# Altium footprint library TE_9-966140-4.PcbLib: 1 footprints
Each footprint in its own frame and in the unit in brackets; x right, y up, seen from the top. Pads: shape width x height; smd on the part's side, far side on the other; paste and mask are expansions set on the pad; w line width, h text height; cw(c..) or ccw(c..) is an arc to the next point about the centre after c.
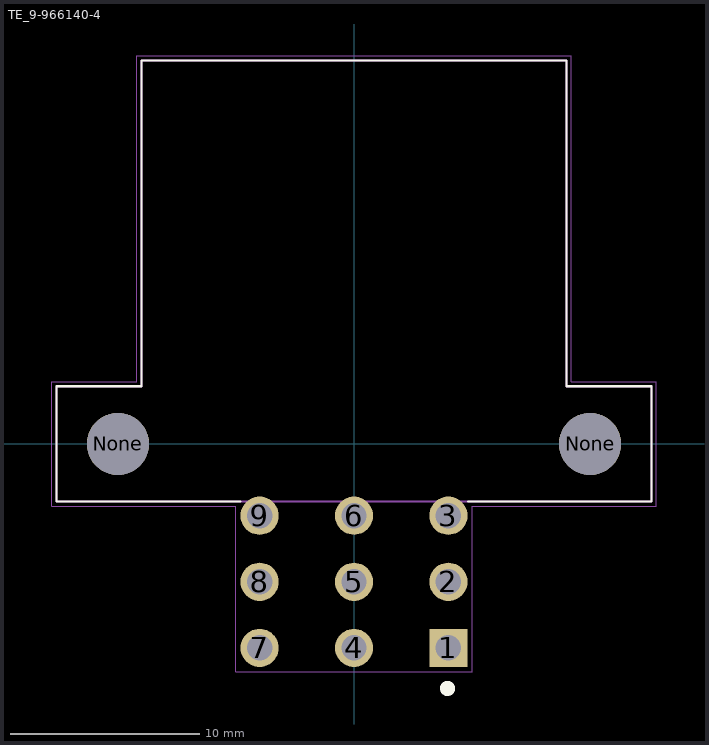
[diagram p0: the footprint, top view; thin cyan lines are the x and y axes]

## TE_9-966140-4 [mm]
pads (11):
  rect 2.025x2.025 hole 1.35: 1(5,-10.8)
  round 2.025 hole 1.35: 2(5,-7.3) 3(5,-3.8) 4(0,-10.8) 5(0,-7.3) 6(0,-3.8) 7(-5,-10.8) 8(-5,-7.3) 9(-5,-3.8)
  round 3.3 hole 3.3 unplated: None(-12.5,0) None(12.5,0)
Top Overlay:
  circle w0.4: c4.953,-12.944 r0.2
  lines w0.127: -6.029,-3.05 -15.75,-3.05 -15.75,3.048 -11.25,3.048 -11.25,20.3 11.25,20.3 11.25,3.051 15.75,3.051 15.75,-3.049 6.052,-3.049
Mechanical 13:
  lines w0.127: -15.75,-3.05 15.75,-3.05 ; -15.75,-3.05 -15.75,3.05 ; -15.75,-3.05 15.75,-3.05 ; -15.75,-3.05 -15.75,3.05 ; -15.75,3.05 -11.25,3.05 ; -15.75,3.05 -11.25,3.05 ; -11.25,3.05 -11.25,20.3 ; -11.25,3.05 -11.25,20.3 ; -11.25,20.3 11.25,20.3 ; -11.25,20.3 11.25,20.3 ; 11.25,3.05 15.75,3.05 ; 11.25,3.05 11.25,20.3 ; 11.25,3.05 15.75,3.05 ; 11.25,3.05 11.25,20.3 ; 15.75,-3.05 15.75,3.05 ; 15.75,-3.05 15.75,3.05
Mechanical 15:
  lines w0.05: -16,-3.3 -16,3.3 -11.5,3.3 -11.5,20.55 11.5,20.55 11.5,3.3 16,3.3 16,-3.3 6.26,-3.3 6.26,-12.06 -6.26,-12.06 -6.26,-3.3 -16,-3.3
3D body "c-9-966140-4-f-3d.stp": height 25.7, standoff -3, extent -15.476,-11.252 15.374,19.648